# EAGLE library part MAX6921 (library Maxim-Integrated)
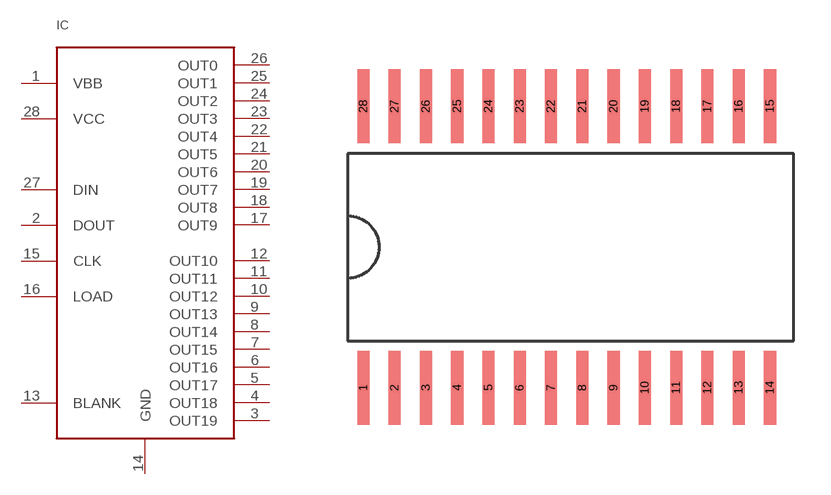
[diagram p0: symbol with the pads of TSSOP-28; footprint TSSOP-28]

Designator prefix IC

## MAX6921  [TSSOP-28]
1  VBB  pwr
2  DOUT  out
3  OUT19
4  OUT18
5  OUT17
6  OUT16
7  OUT15
8  OUT14
9  OUT13
10  OUT12
11  OUT11
12  OUT10
13  BLANK  in
14  GND  pwr
15  CLK  in
16  LOAD  in
17  OUT9
18  OUT8
19  OUT7
20  OUT6
21  OUT5
22  OUT4
23  OUT3
24  OUT2
25  OUT1
26  OUT0
27  DIN  in
28  VCC  pwr

## Footprint TSSOP-28 (pad centres in mm)
smd 0.49 x 3: 1 -8.255,-5.715; 2 -6.985,-5.715; 3 -5.715,-5.715; 4 -4.445,-5.715; 5 -3.175,-5.715; 6 -1.905,-5.715; 7 -0.635,-5.715; 8 0.635,-5.715; 9 1.905,-5.715; 10 3.175,-5.715; 11 4.445,-5.715; 12 5.715,-5.715; 13 6.985,-5.715; 14 8.255,-5.715; 15 8.255,5.715; 16 6.985,5.715; 17 5.715,5.715; 18 4.445,5.715; 19 3.175,5.715; 20 1.905,5.715; 21 0.635,5.715; 22 -0.635,5.715; 23 -1.905,5.715; 24 -3.175,5.715; 25 -4.445,5.715; 26 -5.715,5.715; 27 -6.985,5.715; 28 -8.255,5.715